# Altium schematic symbol library CC8531.SchLib: 1 symbol
Pins are listed as number, name and electrical type; pins without a type are passive.

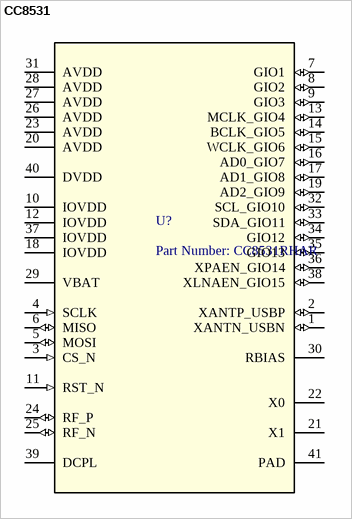
[diagram p0: symbol CC8531]

## CC8531
designator U?, comment Part Number: CC8531RHAR
PurePath™ Wireless 2.4 GHz for wireless digital audio streaming supporting up to 3 channels with USB; Manufacturer: Texas Instruments; PartNumber: CC8531RHAR; RefDes: RefDes; TYPE: TYPE; Value: Value; ComponentLink1Description: Product Page; ComponentLink1URL: https://www.ti.com/product/CC8531
footprint RHA40_4P5x4P5
pins: 1 XANTN_USBN (io), 2 XANTP_USBP (io), 3 CS_N (in), 4 SCLK (in), 5 MOSI (io), 6 MISO (io), 7 GIO1 (io), 8 GIO2 (io), 9 GIO3 (io), 10 IOVDD (power), 11 RST_N (in), 12 IOVDD (power), 13 MCLK_GIO4 (io), 14 BCLK_GIO5 (io), 15 WCLK_GIO6 (io), 16 AD0_GIO7 (io), 17 AD1_GIO8 (io), 18 IOVDD (power), 19 AD2_GIO9 (io), 20 AVDD (power), 21 X1, 22 X0, 23 AVDD (power), 24 RF_P (io), 25 RF_N (io), 26 AVDD (power), 27 AVDD (power), 28 AVDD (power), 29 VBAT (power), 30 RBIAS, 31 AVDD (power), 32 SCL_GIO10 (io), 33 SDA_GIO11 (io), 34 GIO12 (io), 35 GIO13 (io), 36 XPAEN_GIO14 (io), 37 IOVDD (power), 38 XLNAEN_GIO15 (io), 39 DCPL (power), 40 DVDD (power), 41 PAD (power)